# EAGLE library part SPST_DIP_3 (library connectors)
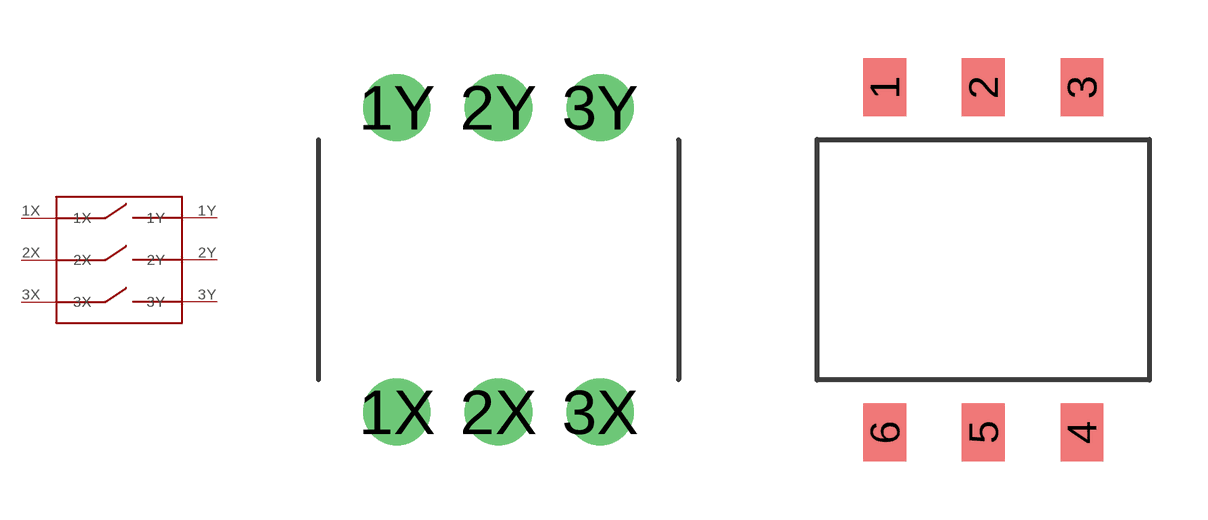
[diagram p4: symbol with the pads of SPST_DIP3; footprints SPST_DIP3, SPST_DIP3_SMT]

Designator prefix -

## SPST_DIP_3THT  [SPST_DIP3]
1X  1X
1Y  1Y
2X  2X
2Y  2Y
3X  3X
3Y  3Y

## SPST_DIP_3SMT  [SPST_DIP3_SMT]
1  1X
2  2X
3  3X
4  3Y
5  2Y
6  1Y

## Footprint SPST_DIP3 (pad centres in mm)
drill 0.8 pad 1.676: 1X -2.54,-3.81; 1Y -2.54,3.81; 2X 0,-3.81; 2Y 0,3.81; 3X 2.54,-3.81; 3Y 2.54,3.81

## Footprint SPST_DIP3_SMT (pad centres in mm)
smd 1.1 x 1.5: 1 -2.54,4.45; 2 0,4.45; 3 2.54,4.45; 4 2.54,-4.45; 5 0,-4.45; 6 -2.54,-4.45